# Altium schematic symbol library Passive.SchLib: 6 symbols
Pins are listed as number, name and electrical type; pins without a type are passive.

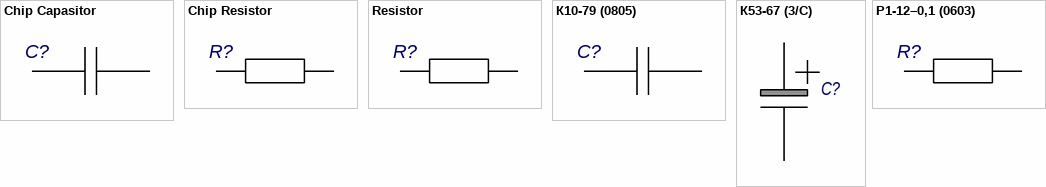
[diagram p0: symbols Chip Capasitor to Р1-12–0,1 (0603)]

## Chip Capasitor
designator C?  (value not drawn)
Чип-конденсатор; Value: *
footprint C0603 (Chip Capasitor (0603), 2-Leads, Body 1,63x0,85mm, IPC Medium Density)
footprint С0805 (Chip Capacitor (0805), 2-Leads, Body 2,0x1,25mm, IPC Medium Density)
footprint C1206 (Chip Capacitor (1206), 2-Leads, Body 3,2x1,6mm, IPC Medium Density)
pins: 1, 2

## Chip Resistor
designator R?  (value not drawn)
Чип-резистор; Value: *
footprint R0603 (Chip Resistor (0603), 2-Leads, Body 1,6x0,85mm, IPC Medium Density)
footprint R0805 (Chip Resistor (0805), 2-Leads, Body 2,1x1,3mm, IPC Medium Density)
footprint R1206 (Chip Resistor (1206), 2-Leads, Body 3,1x1,6mm, IPC Medium Density)
pins: 1, 2

## Resistor
designator R?  (value not drawn)
Резистор; Value: *
footprint SQP 5W (Body 10x22mm)
pins: 1, 2

## К10-79 (0805)
designator C?, comment К10-79  (value not drawn)
Чип-конденсатор 2012М (0805); Manufacturer: АО "НИИ "ГИРИКОНД"; Name: К10-79-250В-220пФ; TU: АЖЯР.673511.004; Case: С0805
footprint С0805 (Чип-конденсатор 2012М (0805))
pins: 1, 2

## К53-67 (3/C)
designator C?, comment C-Type  (value not drawn)
Чип конденсатор (3/C) тант.; Manufacturer: АО "НИИ "ГИРИКОНД"; Name: К53-67 (3/C); TU: АЖЯР.673546.006; Case: C_tant 3(С-type)
footprint C_tant 3(С-type) (Чип-конденсатор корп.3 (С-type))
pins: 1, 2

## Р1-12–0,1 (0603)
designator R?  (value not drawn)
Чип-резистор 1608М (0603) 0,1 Вт; Manufacturer: ОАО "НПО "ЭРКОН"; Name: Р1-12–0,1; TU: АЛЯР.434110.005ТУ; Case: R0603; Value: *; Datasheet: https://www.erkon-nn.ru/upload/iblock/20b/r1_12_alyar.434110.005_vp_datasheet_ru.pdf
footprint R0603 (Чип-резистор 1608М (0603) 0,1 Вт)
pins: 1, 2